# Altium integrated library Linear Technology Power Management Power Control.IntLib: 661 symbols (part 20 of 43)
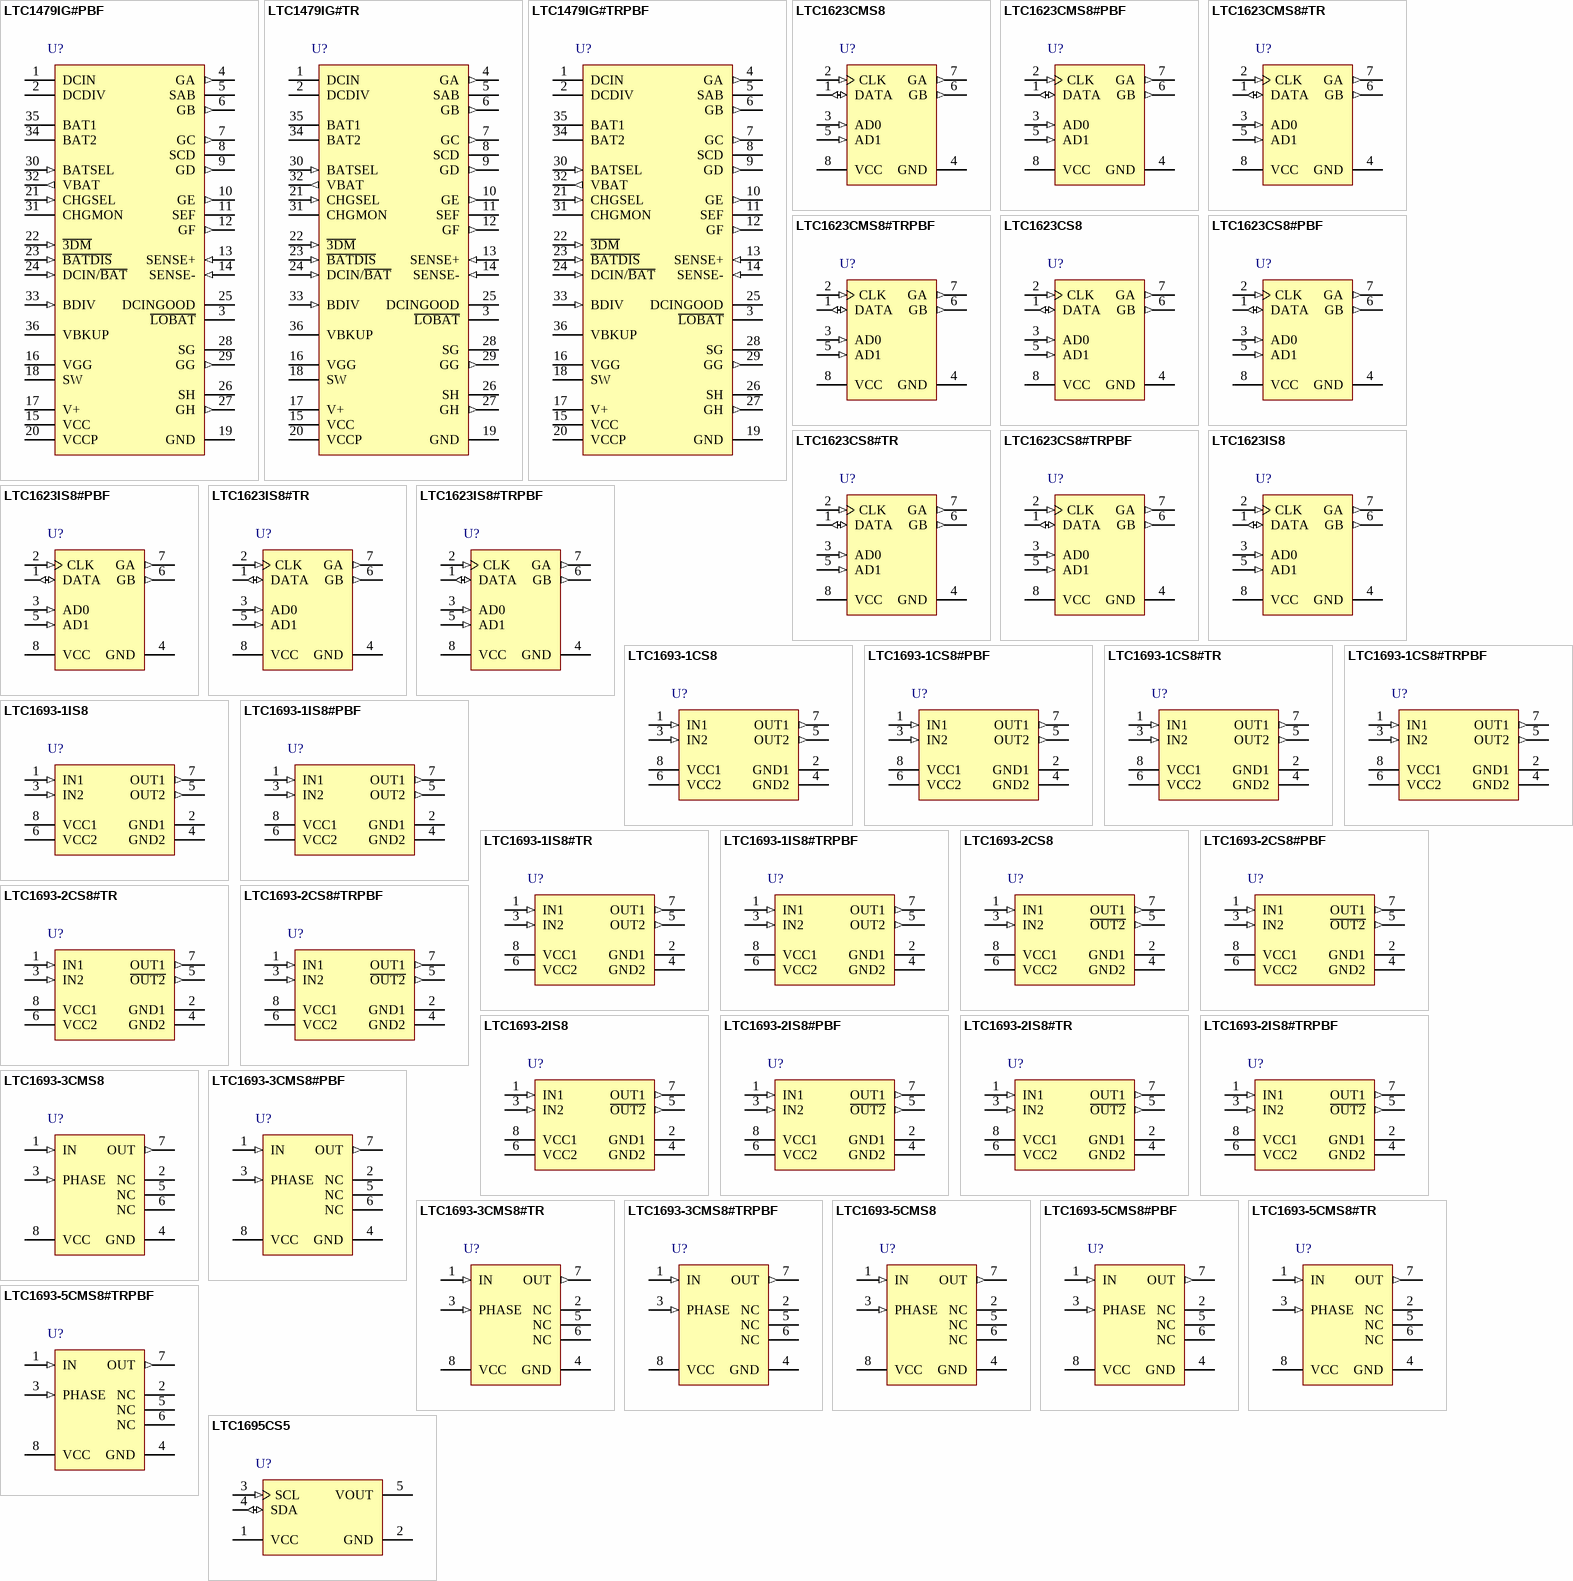
[diagram p38: symbols LTC1479IG#PBF to LTC1695CS5]

## LTC1479IG#TR
designator U?
Triple PowerPath Controller for Dual Battery System and AC/DC, 6 to 28 V Vin, 36-pin SOP (G-36), -40 to 85 degC, Tape and Reel; Manufacturer: Linear Technology; PartNumber: LTC1479IG#TR; Ideal Diode: Triple, External, N-Channel; PackageReference: G-36; PackageDescription: 36-Pin Plastic SSOP, Body 12.8 x 5.3 mm, Pitch 0.65 mm; Supplier 1: Digi-Key; Supplier Part Number 1: LTC1479IG#TR-ND; Packing: Tape and Reel; RoHS: FALSE; Mounting Technology: Surface Mount; ComponentLink1Description: Manufacturer URL; ComponentLink1URL: http://www.linear.com/; ComponentLink2Description: Datasheet; ComponentLink2URL: http://cds.linear.com/docs/en/datasheet/1479f.pdf; ComponentLink3Description: Package Specification; ComponentLink3URL: http://cds.linear.com/docs/en/packaging/SSOP_36_05-08-1640.pdf
footprint LT-G-36_N (SOP, 36-Leads, Body 13.1x5.6mm, Pitch 0.65mm, IPC Medium Density)
footprint LT-G-36_L (SOP, 36-Leads, Body 13.1x5.6mm, Pitch 0.65mm, IPC High Density)
footprint LT-G-36_M (SOP, 36-Leads, Body 13.1x5.6mm, Pitch 0.65mm, IPC Low Density)
pins: 1 DCIN (power) "Supply Input. A 330 ohm resistor should be put in series with this pin and the external DC power source. A 0.1 uF bypass capacitor should be connected to this pin as close as possible.", 2 DCDIV (power) "Supply Divider Input. This is a high impedance comparator input with a 1.215 V threshold (rising edge) and approximately -35 mV hysteresis.", 3 ~{LOBAT} (oc) "Comparator Output. This open-drain output does not have an internal pull-up current source and is active low when the selected battery voltage drops below the programmed voltage.", 4 GA (out) "DCIN Switch Gate Drive. This pin drive the gates of the back-to-back N-channel switches in series with the DCIN input.", 5 SAB "Source Return. The SAB pin is connected to the sources of SW A and SW B. A small pull-down current source returns this node to 0 V when the switches are turned off.", 6 GB (out) "DCIN Switch Gate Drive. This pin drive the gates of the back-to-back N-channel switches in series with the DCIN input.", 7 GC (out) "BAT1 Switch Gate Drive.  This pin drive the gates of the back-to-back N-channel switches in series with the BAT1 input.", 8 SCD "Source Return. The SCD pin is connected to the sources of SW C and SW D. A small pull-down current source returns this node to 0 V when the switches are turned off.", 9 GD (out) "BAT1 Switch Gate Drive.  This pin drive the gates of the back-to-back N-channel switches in series with the BAT1 input.", 10 GE (out) "BAT2 Switch Gate Drive.  This pin drive the gates of the back-to-back N-channel switches in series with the BAT2 input.", 11 SEF "Source Return. The SEF pin is connected to the sources of SW E and SW F. A small pull-down current source returns this node to 0 V potential when the switches are turned off.", 12 GF (out) "BAT2 Switch Gate Drive.  This pin drive the gates of the back-to-back N-channel switches in series with the BAT2 input.", 13 SENSE+ (in) "Inrush Current Input. This pin should be connected directly to the "top" (switch side) of the low valued resistor in series with the three input power selector switch pairs, SW A/B, SW C/D and SW E/F, for detecting and (See Datasheet)", 14 SENSE- (in) "Inrush Current Input. This pin should be connected directly to the "bottom" (output side) of the low valued resistor in series with the three input power selector switch pairs, SW A/B, SW C/D and SW E/F, for detecting and (See Datasheet)", 15 VCC (power) "Power Supply Output. This is a nominal 3.60 V output. Bypass this regulator output with a 2.2 uF tantalum capacitor.  This capacitor is required for stability.", 16 VGG (power) "Gate Supply. This high voltage (36.5 V) switching regulator is intended only for driving the internal micropower gate drive circuitry.  Do not load this pin with any external circuitry. Bypass this pin with a 1 uF/50 V (See Datasheet)", 17 V+ (power) "Supply. The V+ pin is connected via three internal diodes to the DCIN, BAT1 and BAT2 pins and powers the top of the VGG switching regulator inductor. Bypass this pin with a 1 uF/35 V capacitor.", 18 SW (power) "Output. This pin drives the "bottom" of the VGG switching regulator inductor which is connected between this pin and the V+ pin.", 19 GND (power) "Ground. The V GG  and V+ bypass capacitors should be returned to this ground which is connected directly to the source of the N-channel switch in the VGG regulator.", 20 VCCP (power) "Power Supply Output. Bypass this output with at least a 0.1 uF capacitor. The VCCP power supply is used primarily to power internal logic circuitry.", 21 CHGSEL (in) "Battery Charger Selector Input. This high impedance logic input has a built-in 2 uA pull-up current source and allows the uP to determine which battery is being charged by connecting the selected battery to the charger (See Datasheet)", 22 ~{3DM} (in) "Three Diode Mode Input. This high impedance logic input has no built-in pull-up current source. Connect a 100 k resistor from this pin to ground to ensure three diode mode operation from a "old start.“", 23 ~{BATDIS} (in) "Battery Disconnect Input. This high-impedance logic input has a built-in 2 uA pull-up current source and allows the uP to disconnect the battery from the system.", 24 DCIN/~{BAT} (in) "Selector Input. This high impedance logic input allows the uP to make the ultimate decision on the connection of the DC power source, based upon the DCINGOOD pin information. In some minimized systems, the DCIN/B\A\T\ pin (See Datasheet)", 25 DCINGOOD (oc) "Comparator Output. This open-drain output has an internal 2 uA pull-up current source connected through a diode to the VCCP power supply. An external pull-up resistor can be added if more pull-up current is required. This (See Datasheet)", 26 SH "Source Returns. This pin is connected to the sources of SW G and SW H respectively. A small pull-down current source returns these nodes to 0 V when the switches are turned off.", 27 GH (out) "Charger Switch Gate Drive. This pin drive the gates of the back-to-back N-channel switch pairs, SW G and SW H, between the charger output and the two batteries.", 28 SG "Source Returns. This pin is connected to the sources of SW G and SW H respectively. A small pull-down current source returns these nodes to 0 V when the switches are turned off.", 29 GG (out) "Charger Switch Gate Drive. This pin drive the gates of the back-to-back N-channel switch pairs, SW G and SW H, between the charger output and the two batteries.", 30 BATSEL (in) "Battery Selector Input. This high impedance logic input has a built-in 2 uA pull-up current source and allows the uP to select which battery is connected to the system and the battery monitor comparator input. Battery 1 is (See Datasheet)", 31 CHGMON (hiz) "Battery Selector Output. This pin is the output of an internal switch which is connected to BAT1 and BAT2 and connects the positive terminal of the selected battery to the voltage feedback resistors in the charger circuit.", 32 VBAT (out) "Battery Voltage Sense. This pin connects the top of the battery resistor ladder to either BAT1 or BAT2.", 33 BDIV (in) "Battery Divider Input. A high impedance comparator input with a 1.215 V threshold (falling edge) and approximately 35 mV hysteresis.", 34 BAT2 (power) "Supply Input. This pin is the input from the battery. A 1 uF bypass capacitor should be connected to each pin as close as possible if there is no larger battery supply capacitor within 2".", 35 BAT1 (power) "Supply Input. This pin is the input from the battery. A 1 uF bypass capacitor should be connected to each pin as close as possible if there is no larger battery supply capacitor within 2".", 36 VBKUP (power) "Supply Input. This input supplies power to the LTC1479 when in the backup mode of operation. A 1 uF bypass capacitor should be connected to the VBKUP pin as close as possible if there is no larger backup supply capacitor (See Datasheet)"

## LTC1479IG#TRPBF
designator U?
Triple PowerPath Controller for Dual Battery System and AC/DC, 6 to 28 V Vin, 36-pin SOP (G-36), -40 to 85 degC, Pb-Free, Tape and Reel; Manufacturer: Linear Technology; PartNumber: LTC1479IG#TRPBF; Ideal Diode: Triple, External, N-Channel; PackageReference: G-36; PackageDescription: 36-Pin Plastic SSOP, Body 12.8 x 5.3 mm, Pitch 0.65 mm; Supplier 1: Digi-Key; Supplier Part Number 1: LTC1479IG#TRPBF-ND; Packing: Tape and Reel; RoHS: TRUE; Mounting Technology: Surface Mount; ComponentLink1Description: Manufacturer URL; ComponentLink1URL: http://www.linear.com/; ComponentLink2Description: Datasheet; ComponentLink2URL: http://cds.linear.com/docs/en/datasheet/1479f.pdf; ComponentLink3Description: Package Specification; ComponentLink3URL: http://cds.linear.com/docs/en/packaging/SSOP_36_05-08-1640.pdf
footprint LT-G-36_N (SOP, 36-Leads, Body 13.1x5.6mm, Pitch 0.65mm, IPC Medium Density)
footprint LT-G-36_L (SOP, 36-Leads, Body 13.1x5.6mm, Pitch 0.65mm, IPC High Density)
footprint LT-G-36_M (SOP, 36-Leads, Body 13.1x5.6mm, Pitch 0.65mm, IPC Low Density)
pins: 1 DCIN (power) "Supply Input. A 330 ohm resistor should be put in series with this pin and the external DC power source. A 0.1 uF bypass capacitor should be connected to this pin as close as possible.", 2 DCDIV (power) "Supply Divider Input. This is a high impedance comparator input with a 1.215 V threshold (rising edge) and approximately -35 mV hysteresis.", 3 ~{LOBAT} (oc) "Comparator Output. This open-drain output does not have an internal pull-up current source and is active low when the selected battery voltage drops below the programmed voltage.", 4 GA (out) "DCIN Switch Gate Drive. This pin drive the gates of the back-to-back N-channel switches in series with the DCIN input.", 5 SAB "Source Return. The SAB pin is connected to the sources of SW A and SW B. A small pull-down current source returns this node to 0 V when the switches are turned off.", 6 GB (out) "DCIN Switch Gate Drive. This pin drive the gates of the back-to-back N-channel switches in series with the DCIN input.", 7 GC (out) "BAT1 Switch Gate Drive.  This pin drive the gates of the back-to-back N-channel switches in series with the BAT1 input.", 8 SCD "Source Return. The SCD pin is connected to the sources of SW C and SW D. A small pull-down current source returns this node to 0 V when the switches are turned off.", 9 GD (out) "BAT1 Switch Gate Drive.  This pin drive the gates of the back-to-back N-channel switches in series with the BAT1 input.", 10 GE (out) "BAT2 Switch Gate Drive.  This pin drive the gates of the back-to-back N-channel switches in series with the BAT2 input.", 11 SEF "Source Return. The SEF pin is connected to the sources of SW E and SW F. A small pull-down current source returns this node to 0 V potential when the switches are turned off.", 12 GF (out) "BAT2 Switch Gate Drive.  This pin drive the gates of the back-to-back N-channel switches in series with the BAT2 input.", 13 SENSE+ (in) "Inrush Current Input. This pin should be connected directly to the "top" (switch side) of the low valued resistor in series with the three input power selector switch pairs, SW A/B, SW C/D and SW E/F, for detecting and (See Datasheet)", 14 SENSE- (in) "Inrush Current Input. This pin should be connected directly to the "bottom" (output side) of the low valued resistor in series with the three input power selector switch pairs, SW A/B, SW C/D and SW E/F, for detecting and (See Datasheet)", 15 VCC (power) "Power Supply Output. This is a nominal 3.60 V output. Bypass this regulator output with a 2.2 uF tantalum capacitor.  This capacitor is required for stability.", 16 VGG (power) "Gate Supply. This high voltage (36.5 V) switching regulator is intended only for driving the internal micropower gate drive circuitry.  Do not load this pin with any external circuitry. Bypass this pin with a 1 uF/50 V (See Datasheet)", 17 V+ (power) "Supply. The V+ pin is connected via three internal diodes to the DCIN, BAT1 and BAT2 pins and powers the top of the VGG switching regulator inductor. Bypass this pin with a 1 uF/35 V capacitor.", 18 SW (power) "Output. This pin drives the "bottom" of the VGG switching regulator inductor which is connected between this pin and the V+ pin.", 19 GND (power) "Ground. The V GG  and V+ bypass capacitors should be returned to this ground which is connected directly to the source of the N-channel switch in the VGG regulator.", 20 VCCP (power) "Power Supply Output. Bypass this output with at least a 0.1 uF capacitor. The VCCP power supply is used primarily to power internal logic circuitry.", 21 CHGSEL (in) "Battery Charger Selector Input. This high impedance logic input has a built-in 2 uA pull-up current source and allows the uP to determine which battery is being charged by connecting the selected battery to the charger (See Datasheet)", 22 ~{3DM} (in) "Three Diode Mode Input. This high impedance logic input has no built-in pull-up current source. Connect a 100 k resistor from this pin to ground to ensure three diode mode operation from a "old start.“", 23 ~{BATDIS} (in) "Battery Disconnect Input. This high-impedance logic input has a built-in 2 uA pull-up current source and allows the uP to disconnect the battery from the system.", 24 DCIN/~{BAT} (in) "Selector Input. This high impedance logic input allows the uP to make the ultimate decision on the connection of the DC power source, based upon the DCINGOOD pin information. In some minimized systems, the DCIN/B\A\T\ pin (See Datasheet)", 25 DCINGOOD (oc) "Comparator Output. This open-drain output has an internal 2 uA pull-up current source connected through a diode to the VCCP power supply. An external pull-up resistor can be added if more pull-up current is required. This (See Datasheet)", 26 SH "Source Returns. This pin is connected to the sources of SW G and SW H respectively. A small pull-down current source returns these nodes to 0 V when the switches are turned off.", 27 GH (out) "Charger Switch Gate Drive. This pin drive the gates of the back-to-back N-channel switch pairs, SW G and SW H, between the charger output and the two batteries.", 28 SG "Source Returns. This pin is connected to the sources of SW G and SW H respectively. A small pull-down current source returns these nodes to 0 V when the switches are turned off.", 29 GG (out) "Charger Switch Gate Drive. This pin drive the gates of the back-to-back N-channel switch pairs, SW G and SW H, between the charger output and the two batteries.", 30 BATSEL (in) "Battery Selector Input. This high impedance logic input has a built-in 2 uA pull-up current source and allows the uP to select which battery is connected to the system and the battery monitor comparator input. Battery 1 is (See Datasheet)", 31 CHGMON (hiz) "Battery Selector Output. This pin is the output of an internal switch which is connected to BAT1 and BAT2 and connects the positive terminal of the selected battery to the voltage feedback resistors in the charger circuit.", 32 VBAT (out) "Battery Voltage Sense. This pin connects the top of the battery resistor ladder to either BAT1 or BAT2.", 33 BDIV (in) "Battery Divider Input. A high impedance comparator input with a 1.215 V threshold (falling edge) and approximately 35 mV hysteresis.", 34 BAT2 (power) "Supply Input. This pin is the input from the battery. A 1 uF bypass capacitor should be connected to each pin as close as possible if there is no larger battery supply capacitor within 2".", 35 BAT1 (power) "Supply Input. This pin is the input from the battery. A 1 uF bypass capacitor should be connected to each pin as close as possible if there is no larger battery supply capacitor within 2".", 36 VBKUP (power) "Supply Input. This input supplies power to the LTC1479 when in the backup mode of operation. A 1 uF bypass capacitor should be connected to the VBKUP pin as close as possible if there is no larger backup supply capacitor (See Datasheet)"

## LTC1623CMS8
designator U?
Control Up to 16 Peripherals on Same Bus, 2.7 to 5.5 V Vin, 8-pin SOP (MS8-8), 0 to 70 degC; Manufacturer: Linear Technology; PartNumber: LTC1623CMS8; PackageVersion: Rev. G, 03/2012; PackageReference: MS8-8; PackageDescription: 8-Pin Plastic MSOP, Body 3 x 3 mm, Pitch 0.65 mm; Supplier 1: Digi-Key; Supplier Part Number 1: LTC1623CMS8-ND; RoHS: FALSE; Mounting Technology: Surface Mount; ComponentLink1Description: Manufacturer URL; ComponentLink1URL: http://www.linear.com/; ComponentLink2Description: Datasheet; ComponentLink2URL: http://cds.linear.com/docs/en/datasheet/1623f.pdf; ComponentLink3Description: Package Specification; ComponentLink3URL: http://cds.linear.com/docs/en/packaging/05081660_G_MS8.pdf
footprint LT-MS8-8_N (SOP, 8-Leads, Body 3.1x3.1mm, Pitch 0.65mm, IPC Medium Density)
footprint LT-MS8-8_L (SOP, 8-Leads, Body 3.1x3.1mm, Pitch 0.65mm, IPC High Density)
footprint LT-MS8-8_M (SOP, 8-Leads, Body 3.1x3.1mm, Pitch 0.65mm, IPC Low Density)
pins: 1 DATA (io) "Open-Drain Connected Serial Data Interface. Must be pulled high to VCC with external resistor. The pull-up current must be limited to 350uA.", 2 CLK (in) "Serial Clock Interface. Must be pulled high to VCC with external resistor. The pull-up current must be limited to 350uA.", 3 AD0 (in) "Lower Three-State Programmable Address Pin. Must be connected directly to VCC, GND, or VCC/2 (using two resistors <= 1M). Do not float this pin.", 4 GND (power) "Ground.", 5 AD1 (in) "Higher Three-State Programmable Address Pin. Must be connected directly to VCC, GND, or VCC/2 (using two resistors <= 1M). Do not float this pin.", 6 GB (out) "Gate Drive to External High-Side Switch. Fully enhanced by internal charge pump. Controlled by 2nd LSB of command byte.", 7 GA (out) "Gate Drive to External High-Side Switch. Fully enhanced by internal charge pump. Controlled by LSB of command byte.", 8 VCC (power) "Input Supply Voltage. Range from 2.7V to 5.5V."

## LTC1623CMS8#PBF
designator U?
Control Up to 16 Peripherals on Same Bus, 2.7 to 5.5 V Vin, 8-pin SOP (MS8-8), 0 to 70 degC, Pb-Free; Manufacturer: Linear Technology; PartNumber: LTC1623CMS8#PBF; PackageVersion: Rev. G, 03/2012; PackageReference: MS8-8; PackageDescription: 8-Pin Plastic MSOP, Body 3 x 3 mm, Pitch 0.65 mm; Supplier 1: Digi-Key; Supplier Part Number 1: LTC1623CMS8#PBF-ND; RoHS: TRUE; Mounting Technology: Surface Mount; ComponentLink1Description: Manufacturer URL; ComponentLink1URL: http://www.linear.com/; ComponentLink2Description: Datasheet; ComponentLink2URL: http://cds.linear.com/docs/en/datasheet/1623f.pdf; ComponentLink3Description: Package Specification; ComponentLink3URL: http://cds.linear.com/docs/en/packaging/05081660_G_MS8.pdf
footprint LT-MS8-8_N (SOP, 8-Leads, Body 3.1x3.1mm, Pitch 0.65mm, IPC Medium Density)
footprint LT-MS8-8_L (SOP, 8-Leads, Body 3.1x3.1mm, Pitch 0.65mm, IPC High Density)
footprint LT-MS8-8_M (SOP, 8-Leads, Body 3.1x3.1mm, Pitch 0.65mm, IPC Low Density)
pins: 1 DATA (io) "Open-Drain Connected Serial Data Interface. Must be pulled high to VCC with external resistor. The pull-up current must be limited to 350uA.", 2 CLK (in) "Serial Clock Interface. Must be pulled high to VCC with external resistor. The pull-up current must be limited to 350uA.", 3 AD0 (in) "Lower Three-State Programmable Address Pin. Must be connected directly to VCC, GND, or VCC/2 (using two resistors <= 1M). Do not float this pin.", 4 GND (power) "Ground.", 5 AD1 (in) "Higher Three-State Programmable Address Pin. Must be connected directly to VCC, GND, or VCC/2 (using two resistors <= 1M). Do not float this pin.", 6 GB (out) "Gate Drive to External High-Side Switch. Fully enhanced by internal charge pump. Controlled by 2nd LSB of command byte.", 7 GA (out) "Gate Drive to External High-Side Switch. Fully enhanced by internal charge pump. Controlled by LSB of command byte.", 8 VCC (power) "Input Supply Voltage. Range from 2.7V to 5.5V."

## LTC1623CMS8#TR
designator U?
Control Up to 16 Peripherals on Same Bus, 2.7 to 5.5 V Vin, 8-pin SOP (MS8-8), 0 to 70 degC, Tape and Reel; Manufacturer: Linear Technology; PartNumber: LTC1623CMS8#TR; PackageVersion: Rev. G, 03/2012; PackageReference: MS8-8; PackageDescription: 8-Pin Plastic MSOP, Body 3 x 3 mm, Pitch 0.65 mm; Supplier 1: Digi-Key; Supplier Part Number 1: LTC1623CMS8#TR-ND; Packing: Tape and Reel; RoHS: FALSE; Mounting Technology: Surface Mount; ComponentLink1Description: Manufacturer URL; ComponentLink1URL: http://www.linear.com/; ComponentLink2Description: Datasheet; ComponentLink2URL: http://cds.linear.com/docs/en/datasheet/1623f.pdf; ComponentLink3Description: Package Specification; ComponentLink3URL: http://cds.linear.com/docs/en/packaging/05081660_G_MS8.pdf
footprint LT-MS8-8_N (SOP, 8-Leads, Body 3.1x3.1mm, Pitch 0.65mm, IPC Medium Density)
footprint LT-MS8-8_L (SOP, 8-Leads, Body 3.1x3.1mm, Pitch 0.65mm, IPC High Density)
footprint LT-MS8-8_M (SOP, 8-Leads, Body 3.1x3.1mm, Pitch 0.65mm, IPC Low Density)
pins: 1 DATA (io) "Open-Drain Connected Serial Data Interface. Must be pulled high to VCC with external resistor. The pull-up current must be limited to 350uA.", 2 CLK (in) "Serial Clock Interface. Must be pulled high to VCC with external resistor. The pull-up current must be limited to 350uA.", 3 AD0 (in) "Lower Three-State Programmable Address Pin. Must be connected directly to VCC, GND, or VCC/2 (using two resistors <= 1M). Do not float this pin.", 4 GND (power) "Ground.", 5 AD1 (in) "Higher Three-State Programmable Address Pin. Must be connected directly to VCC, GND, or VCC/2 (using two resistors <= 1M). Do not float this pin.", 6 GB (out) "Gate Drive to External High-Side Switch. Fully enhanced by internal charge pump. Controlled by 2nd LSB of command byte.", 7 GA (out) "Gate Drive to External High-Side Switch. Fully enhanced by internal charge pump. Controlled by LSB of command byte.", 8 VCC (power) "Input Supply Voltage. Range from 2.7V to 5.5V."

## LTC1623CMS8#TRPBF
designator U?
Control Up to 16 Peripherals on Same Bus, 2.7 to 5.5 V Vin, 8-pin SOP (MS8-8), 0 to 70 degC, Pb-Free, Tape and Reel; Manufacturer: Linear Technology; PartNumber: LTC1623CMS8#TRPBF; PackageVersion: Rev. G, 03/2012; PackageReference: MS8-8; PackageDescription: 8-Pin Plastic MSOP, Body 3 x 3 mm, Pitch 0.65 mm; Supplier 1: Digi-Key; Supplier Part Number 1: LTC1623CMS8#TRPBF-ND; Packing: Tape and Reel; RoHS: TRUE; Mounting Technology: Surface Mount; ComponentLink1Description: Manufacturer URL; ComponentLink1URL: http://www.linear.com/; ComponentLink2Description: Datasheet; ComponentLink2URL: http://cds.linear.com/docs/en/datasheet/1623f.pdf; ComponentLink3Description: Package Specification; ComponentLink3URL: http://cds.linear.com/docs/en/packaging/05081660_G_MS8.pdf
footprint LT-MS8-8_N (SOP, 8-Leads, Body 3.1x3.1mm, Pitch 0.65mm, IPC Medium Density)
footprint LT-MS8-8_L (SOP, 8-Leads, Body 3.1x3.1mm, Pitch 0.65mm, IPC High Density)
footprint LT-MS8-8_M (SOP, 8-Leads, Body 3.1x3.1mm, Pitch 0.65mm, IPC Low Density)
pins: 1 DATA (io) "Open-Drain Connected Serial Data Interface. Must be pulled high to VCC with external resistor. The pull-up current must be limited to 350uA.", 2 CLK (in) "Serial Clock Interface. Must be pulled high to VCC with external resistor. The pull-up current must be limited to 350uA.", 3 AD0 (in) "Lower Three-State Programmable Address Pin. Must be connected directly to VCC, GND, or VCC/2 (using two resistors <= 1M). Do not float this pin.", 4 GND (power) "Ground.", 5 AD1 (in) "Higher Three-State Programmable Address Pin. Must be connected directly to VCC, GND, or VCC/2 (using two resistors <= 1M). Do not float this pin.", 6 GB (out) "Gate Drive to External High-Side Switch. Fully enhanced by internal charge pump. Controlled by 2nd LSB of command byte.", 7 GA (out) "Gate Drive to External High-Side Switch. Fully enhanced by internal charge pump. Controlled by LSB of command byte.", 8 VCC (power) "Input Supply Voltage. Range from 2.7V to 5.5V."

## LTC1623CS8
designator U?
Control Up to 16 Peripherals on Same Bus, 2.7 to 5.5 V Vin, 8-pin SOIC (S8-8), 0 to 70 degC; Manufacturer: Linear Technology; PartNumber: LTC1623CS8; PackageVersion: Rev. G, 03/2012; PackageReference: S8-8; PackageDescription: 8-Pin Plastic Small Outline (Narrow .150 Inch), Body 4.9 x 3.9 mm, Pitch 1.27 mm; Supplier 1: Digi-Key; Supplier Part Number 1: LTC1623CS8-ND; RoHS: FALSE; Mounting Technology: Surface Mount; ComponentLink1Description: Manufacturer URL; ComponentLink1URL: http://www.linear.com/; ComponentLink2Description: Datasheet; ComponentLink2URL: http://cds.linear.com/docs/en/datasheet/1623f.pdf; ComponentLink3Description: Package Specification; ComponentLink3URL: http://cds.linear.com/docs/en/packaging/05081610_G_SO8.pdf
footprint LT-S8-8_N (SOIC, 8-Leads, Body 5x4mm, Pitch 1.27mm, IPC Medium Density)
footprint LT-S8-8_L (SOIC, 8-Leads, Body 5x4mm, Pitch 1.27mm, IPC High Density)
footprint LT-S8-8_M (SOIC, 8-Leads, Body 5x4mm, Pitch 1.27mm, IPC Low Density)
pins: 1 DATA (io) "Open-Drain Connected Serial Data Interface. Must be pulled high to VCC with external resistor. The pull-up current must be limited to 350uA.", 2 CLK (in) "Serial Clock Interface. Must be pulled high to VCC with external resistor. The pull-up current must be limited to 350uA.", 3 AD0 (in) "Lower Three-State Programmable Address Pin. Must be connected directly to VCC, GND, or VCC/2 (using two resistors <= 1M). Do not float this pin.", 4 GND (power) "Ground.", 5 AD1 (in) "Higher Three-State Programmable Address Pin. Must be connected directly to VCC, GND, or VCC/2 (using two resistors <= 1M). Do not float this pin.", 6 GB (out) "Gate Drive to External High-Side Switch. Fully enhanced by internal charge pump. Controlled by 2nd LSB of command byte.", 7 GA (out) "Gate Drive to External High-Side Switch. Fully enhanced by internal charge pump. Controlled by LSB of command byte.", 8 VCC (power) "Input Supply Voltage. Range from 2.7V to 5.5V."

## LTC1623CS8#PBF
designator U?
Control Up to 16 Peripherals on Same Bus, 2.7 to 5.5 V Vin, 8-pin SOIC (S8-8), 0 to 70 degC, Pb-Free; Manufacturer: Linear Technology; PartNumber: LTC1623CS8#PBF; PackageVersion: Rev. G, 03/2012; PackageReference: S8-8; PackageDescription: 8-Pin Plastic Small Outline (Narrow .150 Inch), Body 4.9 x 3.9 mm, Pitch 1.27 mm; Supplier 1: Digi-Key; Supplier Part Number 1: LTC1623CS8#PBF-ND; RoHS: TRUE; Mounting Technology: Surface Mount; ComponentLink1Description: Manufacturer URL; ComponentLink1URL: http://www.linear.com/; ComponentLink2Description: Datasheet; ComponentLink2URL: http://cds.linear.com/docs/en/datasheet/1623f.pdf; ComponentLink3Description: Package Specification; ComponentLink3URL: http://cds.linear.com/docs/en/packaging/05081610_G_SO8.pdf
footprint LT-S8-8_N (SOIC, 8-Leads, Body 5x4mm, Pitch 1.27mm, IPC Medium Density)
footprint LT-S8-8_L (SOIC, 8-Leads, Body 5x4mm, Pitch 1.27mm, IPC High Density)
footprint LT-S8-8_M (SOIC, 8-Leads, Body 5x4mm, Pitch 1.27mm, IPC Low Density)
pins: 1 DATA (io) "Open-Drain Connected Serial Data Interface. Must be pulled high to VCC with external resistor. The pull-up current must be limited to 350uA.", 2 CLK (in) "Serial Clock Interface. Must be pulled high to VCC with external resistor. The pull-up current must be limited to 350uA.", 3 AD0 (in) "Lower Three-State Programmable Address Pin. Must be connected directly to VCC, GND, or VCC/2 (using two resistors <= 1M). Do not float this pin.", 4 GND (power) "Ground.", 5 AD1 (in) "Higher Three-State Programmable Address Pin. Must be connected directly to VCC, GND, or VCC/2 (using two resistors <= 1M). Do not float this pin.", 6 GB (out) "Gate Drive to External High-Side Switch. Fully enhanced by internal charge pump. Controlled by 2nd LSB of command byte.", 7 GA (out) "Gate Drive to External High-Side Switch. Fully enhanced by internal charge pump. Controlled by LSB of command byte.", 8 VCC (power) "Input Supply Voltage. Range from 2.7V to 5.5V."

## LTC1623CS8#TR
designator U?
Control Up to 16 Peripherals on Same Bus, 2.7 to 5.5 V Vin, 8-pin SOIC (S8-8), 0 to 70 degC, Tape and Reel; Manufacturer: Linear Technology; PartNumber: LTC1623CS8#TR; PackageVersion: Rev. G, 03/2012; PackageReference: S8-8; PackageDescription: 8-Pin Plastic Small Outline (Narrow .150 Inch), Body 4.9 x 3.9 mm, Pitch 1.27 mm; Supplier 1: Digi-Key; Supplier Part Number 1: LTC1623CS8#TR-ND; Packing: Tape and Reel; RoHS: FALSE; Mounting Technology: Surface Mount; ComponentLink1Description: Manufacturer URL; ComponentLink1URL: http://www.linear.com/; ComponentLink2Description: Datasheet; ComponentLink2URL: http://cds.linear.com/docs/en/datasheet/1623f.pdf; ComponentLink3Description: Package Specification; ComponentLink3URL: http://cds.linear.com/docs/en/packaging/05081610_G_SO8.pdf
footprint LT-S8-8_N (SOIC, 8-Leads, Body 5x4mm, Pitch 1.27mm, IPC Medium Density)
footprint LT-S8-8_L (SOIC, 8-Leads, Body 5x4mm, Pitch 1.27mm, IPC High Density)
footprint LT-S8-8_M (SOIC, 8-Leads, Body 5x4mm, Pitch 1.27mm, IPC Low Density)
pins: 1 DATA (io) "Open-Drain Connected Serial Data Interface. Must be pulled high to VCC with external resistor. The pull-up current must be limited to 350uA.", 2 CLK (in) "Serial Clock Interface. Must be pulled high to VCC with external resistor. The pull-up current must be limited to 350uA.", 3 AD0 (in) "Lower Three-State Programmable Address Pin. Must be connected directly to VCC, GND, or VCC/2 (using two resistors <= 1M). Do not float this pin.", 4 GND (power) "Ground.", 5 AD1 (in) "Higher Three-State Programmable Address Pin. Must be connected directly to VCC, GND, or VCC/2 (using two resistors <= 1M). Do not float this pin.", 6 GB (out) "Gate Drive to External High-Side Switch. Fully enhanced by internal charge pump. Controlled by 2nd LSB of command byte.", 7 GA (out) "Gate Drive to External High-Side Switch. Fully enhanced by internal charge pump. Controlled by LSB of command byte.", 8 VCC (power) "Input Supply Voltage. Range from 2.7V to 5.5V."

## LTC1623CS8#TRPBF
designator U?
Control Up to 16 Peripherals on Same Bus, 2.7 to 5.5 V Vin, 8-pin SOIC (S8-8), 0 to 70 degC, Pb-Free, Tape and Reel; Manufacturer: Linear Technology; PartNumber: LTC1623CS8#TRPBF; PackageVersion: Rev. G, 03/2012; PackageReference: S8-8; PackageDescription: 8-Pin Plastic Small Outline (Narrow .150 Inch), Body 4.9 x 3.9 mm, Pitch 1.27 mm; Supplier 1: Digi-Key; Supplier Part Number 1: LTC1623CS8#TRPBF-ND; Packing: Tape and Reel; RoHS: TRUE; Mounting Technology: Surface Mount; ComponentLink1Description: Manufacturer URL; ComponentLink1URL: http://www.linear.com/; ComponentLink2Description: Datasheet; ComponentLink2URL: http://cds.linear.com/docs/en/datasheet/1623f.pdf; ComponentLink3Description: Package Specification; ComponentLink3URL: http://cds.linear.com/docs/en/packaging/05081610_G_SO8.pdf
footprint LT-S8-8_N (SOIC, 8-Leads, Body 5x4mm, Pitch 1.27mm, IPC Medium Density)
footprint LT-S8-8_L (SOIC, 8-Leads, Body 5x4mm, Pitch 1.27mm, IPC High Density)
footprint LT-S8-8_M (SOIC, 8-Leads, Body 5x4mm, Pitch 1.27mm, IPC Low Density)
pins: 1 DATA (io) "Open-Drain Connected Serial Data Interface. Must be pulled high to VCC with external resistor. The pull-up current must be limited to 350uA.", 2 CLK (in) "Serial Clock Interface. Must be pulled high to VCC with external resistor. The pull-up current must be limited to 350uA.", 3 AD0 (in) "Lower Three-State Programmable Address Pin. Must be connected directly to VCC, GND, or VCC/2 (using two resistors <= 1M). Do not float this pin.", 4 GND (power) "Ground.", 5 AD1 (in) "Higher Three-State Programmable Address Pin. Must be connected directly to VCC, GND, or VCC/2 (using two resistors <= 1M). Do not float this pin.", 6 GB (out) "Gate Drive to External High-Side Switch. Fully enhanced by internal charge pump. Controlled by 2nd LSB of command byte.", 7 GA (out) "Gate Drive to External High-Side Switch. Fully enhanced by internal charge pump. Controlled by LSB of command byte.", 8 VCC (power) "Input Supply Voltage. Range from 2.7V to 5.5V."

## LTC1623IS8
designator U?
Control Up to 16 Peripherals on Same Bus, 2.7 to 5.5 V Vin, 8-pin SOIC (S8-8), -40 to 85 degC; Manufacturer: Linear Technology; PartNumber: LTC1623IS8; PackageVersion: Rev. G, 03/2012; PackageReference: S8-8; PackageDescription: 8-Pin Plastic Small Outline (Narrow .150 Inch), Body 4.9 x 3.9 mm, Pitch 1.27 mm; Supplier 1: Digi-Key; Supplier Part Number 1: LTC1623IS8-ND; RoHS: FALSE; Mounting Technology: Surface Mount; ComponentLink1Description: Manufacturer URL; ComponentLink1URL: http://www.linear.com/; ComponentLink2Description: Datasheet; ComponentLink2URL: http://cds.linear.com/docs/en/datasheet/1623f.pdf; ComponentLink3Description: Package Specification; ComponentLink3URL: http://cds.linear.com/docs/en/packaging/05081610_G_SO8.pdf
footprint LT-S8-8_N (SOIC, 8-Leads, Body 5x4mm, Pitch 1.27mm, IPC Medium Density)
footprint LT-S8-8_L (SOIC, 8-Leads, Body 5x4mm, Pitch 1.27mm, IPC High Density)
footprint LT-S8-8_M (SOIC, 8-Leads, Body 5x4mm, Pitch 1.27mm, IPC Low Density)
pins: 1 DATA (io) "Open-Drain Connected Serial Data Interface. Must be pulled high to VCC with external resistor. The pull-up current must be limited to 350uA.", 2 CLK (in) "Serial Clock Interface. Must be pulled high to VCC with external resistor. The pull-up current must be limited to 350uA.", 3 AD0 (in) "Lower Three-State Programmable Address Pin. Must be connected directly to VCC, GND, or VCC/2 (using two resistors <= 1M). Do not float this pin.", 4 GND (power) "Ground.", 5 AD1 (in) "Higher Three-State Programmable Address Pin. Must be connected directly to VCC, GND, or VCC/2 (using two resistors <= 1M). Do not float this pin.", 6 GB (out) "Gate Drive to External High-Side Switch. Fully enhanced by internal charge pump. Controlled by 2nd LSB of command byte.", 7 GA (out) "Gate Drive to External High-Side Switch. Fully enhanced by internal charge pump. Controlled by LSB of command byte.", 8 VCC (power) "Input Supply Voltage. Range from 2.7V to 5.5V."

## LTC1623IS8#PBF
designator U?
Control Up to 16 Peripherals on Same Bus, 2.7 to 5.5 V Vin, 8-pin SOIC (S8-8), -40 to 85 degC, Pb-Free; Manufacturer: Linear Technology; PartNumber: LTC1623IS8#PBF; PackageVersion: Rev. G, 03/2012; PackageReference: S8-8; PackageDescription: 8-Pin Plastic Small Outline (Narrow .150 Inch), Body 4.9 x 3.9 mm, Pitch 1.27 mm; Supplier 1: Digi-Key; Supplier Part Number 1: LTC1623IS8#PBF-ND; RoHS: TRUE; Mounting Technology: Surface Mount; ComponentLink1Description: Manufacturer URL; ComponentLink1URL: http://www.linear.com/; ComponentLink2Description: Datasheet; ComponentLink2URL: http://cds.linear.com/docs/en/datasheet/1623f.pdf; ComponentLink3Description: Package Specification; ComponentLink3URL: http://cds.linear.com/docs/en/packaging/05081610_G_SO8.pdf
footprint LT-S8-8_N (SOIC, 8-Leads, Body 5x4mm, Pitch 1.27mm, IPC Medium Density)
footprint LT-S8-8_L (SOIC, 8-Leads, Body 5x4mm, Pitch 1.27mm, IPC High Density)
footprint LT-S8-8_M (SOIC, 8-Leads, Body 5x4mm, Pitch 1.27mm, IPC Low Density)
pins: 1 DATA (io) "Open-Drain Connected Serial Data Interface. Must be pulled high to VCC with external resistor. The pull-up current must be limited to 350uA.", 2 CLK (in) "Serial Clock Interface. Must be pulled high to VCC with external resistor. The pull-up current must be limited to 350uA.", 3 AD0 (in) "Lower Three-State Programmable Address Pin. Must be connected directly to VCC, GND, or VCC/2 (using two resistors <= 1M). Do not float this pin.", 4 GND (power) "Ground.", 5 AD1 (in) "Higher Three-State Programmable Address Pin. Must be connected directly to VCC, GND, or VCC/2 (using two resistors <= 1M). Do not float this pin.", 6 GB (out) "Gate Drive to External High-Side Switch. Fully enhanced by internal charge pump. Controlled by 2nd LSB of command byte.", 7 GA (out) "Gate Drive to External High-Side Switch. Fully enhanced by internal charge pump. Controlled by LSB of command byte.", 8 VCC (power) "Input Supply Voltage. Range from 2.7V to 5.5V."

## LTC1623IS8#TR
designator U?
Control Up to 16 Peripherals on Same Bus, 2.7 to 5.5 V Vin, 8-pin SOIC (S8-8), -40 to 85 degC, Tape and Reel; Manufacturer: Linear Technology; PartNumber: LTC1623IS8#TR; PackageVersion: Rev. G, 03/2012; PackageReference: S8-8; PackageDescription: 8-Pin Plastic Small Outline (Narrow .150 Inch), Body 4.9 x 3.9 mm, Pitch 1.27 mm; Supplier 1: Digi-Key; Supplier Part Number 1: LTC1623IS8#TR-ND; Packing: Tape and Reel; RoHS: FALSE; Mounting Technology: Surface Mount; ComponentLink1Description: Manufacturer URL; ComponentLink1URL: http://www.linear.com/; ComponentLink2Description: Datasheet; ComponentLink2URL: http://cds.linear.com/docs/en/datasheet/1623f.pdf; ComponentLink3Description: Package Specification; ComponentLink3URL: http://cds.linear.com/docs/en/packaging/05081610_G_SO8.pdf
footprint LT-S8-8_N (SOIC, 8-Leads, Body 5x4mm, Pitch 1.27mm, IPC Medium Density)
footprint LT-S8-8_L (SOIC, 8-Leads, Body 5x4mm, Pitch 1.27mm, IPC High Density)
footprint LT-S8-8_M (SOIC, 8-Leads, Body 5x4mm, Pitch 1.27mm, IPC Low Density)
pins: 1 DATA (io) "Open-Drain Connected Serial Data Interface. Must be pulled high to VCC with external resistor. The pull-up current must be limited to 350uA.", 2 CLK (in) "Serial Clock Interface. Must be pulled high to VCC with external resistor. The pull-up current must be limited to 350uA.", 3 AD0 (in) "Lower Three-State Programmable Address Pin. Must be connected directly to VCC, GND, or VCC/2 (using two resistors <= 1M). Do not float this pin.", 4 GND (power) "Ground.", 5 AD1 (in) "Higher Three-State Programmable Address Pin. Must be connected directly to VCC, GND, or VCC/2 (using two resistors <= 1M). Do not float this pin.", 6 GB (out) "Gate Drive to External High-Side Switch. Fully enhanced by internal charge pump. Controlled by 2nd LSB of command byte.", 7 GA (out) "Gate Drive to External High-Side Switch. Fully enhanced by internal charge pump. Controlled by LSB of command byte.", 8 VCC (power) "Input Supply Voltage. Range from 2.7V to 5.5V."

## LTC1623IS8#TRPBF
designator U?
Control Up to 16 Peripherals on Same Bus, 2.7 to 5.5 V Vin, 8-pin SOIC (S8-8), -40 to 85 degC, Pb-Free, Tape and Reel; Manufacturer: Linear Technology; PartNumber: LTC1623IS8#TRPBF; PackageVersion: Rev. G, 03/2012; PackageReference: S8-8; PackageDescription: 8-Pin Plastic Small Outline (Narrow .150 Inch), Body 4.9 x 3.9 mm, Pitch 1.27 mm; Supplier 1: Digi-Key; Supplier Part Number 1: LTC1623IS8#TRPBF-ND; Packing: Tape and Reel; RoHS: TRUE; Mounting Technology: Surface Mount; ComponentLink1Description: Manufacturer URL; ComponentLink1URL: http://www.linear.com/; ComponentLink2Description: Datasheet; ComponentLink2URL: http://cds.linear.com/docs/en/datasheet/1623f.pdf; ComponentLink3Description: Package Specification; ComponentLink3URL: http://cds.linear.com/docs/en/packaging/05081610_G_SO8.pdf
footprint LT-S8-8_N (SOIC, 8-Leads, Body 5x4mm, Pitch 1.27mm, IPC Medium Density)
footprint LT-S8-8_L (SOIC, 8-Leads, Body 5x4mm, Pitch 1.27mm, IPC High Density)
footprint LT-S8-8_M (SOIC, 8-Leads, Body 5x4mm, Pitch 1.27mm, IPC Low Density)
pins: 1 DATA (io) "Open-Drain Connected Serial Data Interface. Must be pulled high to VCC with external resistor. The pull-up current must be limited to 350uA.", 2 CLK (in) "Serial Clock Interface. Must be pulled high to VCC with external resistor. The pull-up current must be limited to 350uA.", 3 AD0 (in) "Lower Three-State Programmable Address Pin. Must be connected directly to VCC, GND, or VCC/2 (using two resistors <= 1M). Do not float this pin.", 4 GND (power) "Ground.", 5 AD1 (in) "Higher Three-State Programmable Address Pin. Must be connected directly to VCC, GND, or VCC/2 (using two resistors <= 1M). Do not float this pin.", 6 GB (out) "Gate Drive to External High-Side Switch. Fully enhanced by internal charge pump. Controlled by 2nd LSB of command byte.", 7 GA (out) "Gate Drive to External High-Side Switch. Fully enhanced by internal charge pump. Controlled by LSB of command byte.", 8 VCC (power) "Input Supply Voltage. Range from 2.7V to 5.5V."

## LTC1693-1CS8
designator U?
Two Noninverting Drivers 1.5 A Peak Output Current, 4.5 to 13.2 V Vin, 8-pin SOIC (S8-8), 0 to 70 degC; Manufacturer: Linear Technology; PartNumber: LTC1693-1CS8; DatasheetVersion: Rev. A; PackageVersion: Rev. G, 03/2012; PackageReference: S8-8; PackageDescription: 8-Pin Plastic Small Outline (Narrow .150 Inch), Body 4.9 x 3.9 mm, Pitch 1.27 mm; Supplier 1: Digi-Key; Supplier Part Number 1: LTC1693-1CS8-ND; RoHS: FALSE; Mounting Technology: Surface Mount; ComponentLink1Description: Manufacturer URL; ComponentLink1URL: http://www.linear.com/; ComponentLink2Description: Datasheet; ComponentLink2URL: http://cds.linear.com/docs/en/datasheet/1693fa.pdf; ComponentLink3Description: Package Specification; ComponentLink3URL: http://cds.linear.com/docs/en/packaging/05081610_G_SO8.pdf
footprint LT-S8-8_N (SOIC, 8-Leads, Body 5x4mm, Pitch 1.27mm, IPC Medium Density)
footprint LT-S8-8_L (SOIC, 8-Leads, Body 5x4mm, Pitch 1.27mm, IPC High Density)
footprint LT-S8-8_M (SOIC, 8-Leads, Body 5x4mm, Pitch 1.27mm, IPC Low Density)
pins: 1 IN1 (in) "Driver Inputs. The inputs have VCC independent thresholds with 1.2V typical hysteresis to improve noise immunity.", 2 GND1 (power) "Driver Grounds. Connect to a low impedance ground. The VCC bypass capacitor should connect directly to this pin. The source of the external MOSFET should also connect directly to the ground pin. This minimizes the AC current (See Datasheet)", 3 IN2 (in) "Driver Inputs. The inputs have VCC independent thresholds with 1.2V typical hysteresis to improve noise immunity.", 4 GND2 (power) "Driver Grounds. Connect to a low impedance ground. The VCC bypass capacitor should connect directly to this pin. The source of the external MOSFET should also connect directly to the ground pin. This minimizes the AC current (See Datasheet)", 5 OUT2 (out) "Driver Outputs. The LTC1693-1’s outputs are in phase with their respective inputs (IN1, IN2).", 6 VCC2 (power) "Power Supply Inputs", 7 OUT1 (out) "Driver Outputs. The LTC1693-1’s outputs are in phase with their respective inputs (IN1, IN2).", 8 VCC1 (power) "Power Supply Inputs"

## LTC1693-1CS8#PBF
designator U?
Two Noninverting Drivers 1.5 A Peak Output Current, 4.5 to 13.2 V Vin, 8-pin SOIC (S8-8), 0 to 70 degC, Pb-Free; Manufacturer: Linear Technology; PartNumber: LTC1693-1CS8#PBF; DatasheetVersion: Rev. A; PackageVersion: Rev. G, 03/2012; PackageReference: S8-8; PackageDescription: 8-Pin Plastic Small Outline (Narrow .150 Inch), Body 4.9 x 3.9 mm, Pitch 1.27 mm; Supplier 1: Digi-Key; Supplier Part Number 1: LTC1693-1CS8#PBF-ND; Supplier 2: Newark; Supplier Part Number 2: 56M3231; RoHS: TRUE; Mounting Technology: Surface Mount; ComponentLink1Description: Manufacturer URL; ComponentLink1URL: http://www.linear.com/; ComponentLink2Description: Datasheet; ComponentLink2URL: http://cds.linear.com/docs/en/datasheet/1693fa.pdf; ComponentLink3Description: Package Specification; ComponentLink3URL: http://cds.linear.com/docs/en/packaging/05081610_G_SO8.pdf
footprint LT-S8-8_N (SOIC, 8-Leads, Body 5x4mm, Pitch 1.27mm, IPC Medium Density)
footprint LT-S8-8_L (SOIC, 8-Leads, Body 5x4mm, Pitch 1.27mm, IPC High Density)
footprint LT-S8-8_M (SOIC, 8-Leads, Body 5x4mm, Pitch 1.27mm, IPC Low Density)
pins: 1 IN1 (in) "Driver Inputs. The inputs have VCC independent thresholds with 1.2V typical hysteresis to improve noise immunity.", 2 GND1 (power) "Driver Grounds. Connect to a low impedance ground. The VCC bypass capacitor should connect directly to this pin. The source of the external MOSFET should also connect directly to the ground pin. This minimizes the AC current (See Datasheet)", 3 IN2 (in) "Driver Inputs. The inputs have VCC independent thresholds with 1.2V typical hysteresis to improve noise immunity.", 4 GND2 (power) "Driver Grounds. Connect to a low impedance ground. The VCC bypass capacitor should connect directly to this pin. The source of the external MOSFET should also connect directly to the ground pin. This minimizes the AC current (See Datasheet)", 5 OUT2 (out) "Driver Outputs. The LTC1693-1’s outputs are in phase with their respective inputs (IN1, IN2).", 6 VCC2 (power) "Power Supply Inputs", 7 OUT1 (out) "Driver Outputs. The LTC1693-1’s outputs are in phase with their respective inputs (IN1, IN2).", 8 VCC1 (power) "Power Supply Inputs"

## LTC1693-1CS8#TR
designator U?
Two Noninverting Drivers 1.5 A Peak Output Current, 4.5 to 13.2 V Vin, 8-pin SOIC (S8-8), 0 to 70 degC, Tape and Reel; Manufacturer: Linear Technology; PartNumber: LTC1693-1CS8#TR; DatasheetVersion: Rev. A; PackageVersion: Rev. G, 03/2012; PackageReference: S8-8; PackageDescription: 8-Pin Plastic Small Outline (Narrow .150 Inch), Body 4.9 x 3.9 mm, Pitch 1.27 mm; Supplier 1: Digi-Key; Supplier Part Number 1: LTC1693-1CS8#TR-ND; Packing: Tape and Reel; RoHS: FALSE; Mounting Technology: Surface Mount; ComponentLink1Description: Manufacturer URL; ComponentLink1URL: http://www.linear.com/; ComponentLink2Description: Datasheet; ComponentLink2URL: http://cds.linear.com/docs/en/datasheet/1693fa.pdf; ComponentLink3Description: Package Specification; ComponentLink3URL: http://cds.linear.com/docs/en/packaging/05081610_G_SO8.pdf
footprint LT-S8-8_N (SOIC, 8-Leads, Body 5x4mm, Pitch 1.27mm, IPC Medium Density)
footprint LT-S8-8_L (SOIC, 8-Leads, Body 5x4mm, Pitch 1.27mm, IPC High Density)
footprint LT-S8-8_M (SOIC, 8-Leads, Body 5x4mm, Pitch 1.27mm, IPC Low Density)
pins: 1 IN1 (in) "Driver Inputs. The inputs have VCC independent thresholds with 1.2V typical hysteresis to improve noise immunity.", 2 GND1 (power) "Driver Grounds. Connect to a low impedance ground. The VCC bypass capacitor should connect directly to this pin. The source of the external MOSFET should also connect directly to the ground pin. This minimizes the AC current (See Datasheet)", 3 IN2 (in) "Driver Inputs. The inputs have VCC independent thresholds with 1.2V typical hysteresis to improve noise immunity.", 4 GND2 (power) "Driver Grounds. Connect to a low impedance ground. The VCC bypass capacitor should connect directly to this pin. The source of the external MOSFET should also connect directly to the ground pin. This minimizes the AC current (See Datasheet)", 5 OUT2 (out) "Driver Outputs. The LTC1693-1’s outputs are in phase with their respective inputs (IN1, IN2).", 6 VCC2 (power) "Power Supply Inputs", 7 OUT1 (out) "Driver Outputs. The LTC1693-1’s outputs are in phase with their respective inputs (IN1, IN2).", 8 VCC1 (power) "Power Supply Inputs"

## LTC1693-1CS8#TRPBF
designator U?
Two Noninverting Drivers 1.5 A Peak Output Current, 4.5 to 13.2 V Vin, 8-pin SOIC (S8-8), 0 to 70 degC, Pb-Free, Tape and Reel; Manufacturer: Linear Technology; PartNumber: LTC1693-1CS8#TRPBF; DatasheetVersion: Rev. A; PackageVersion: Rev. G, 03/2012; PackageReference: S8-8; PackageDescription: 8-Pin Plastic Small Outline (Narrow .150 Inch), Body 4.9 x 3.9 mm, Pitch 1.27 mm; Supplier 1: Digi-Key; Supplier Part Number 1: LTC1693-1CS8#TRPBF-ND; Packing: Tape and Reel; RoHS: TRUE; Mounting Technology: Surface Mount; ComponentLink1Description: Manufacturer URL; ComponentLink1URL: http://www.linear.com/; ComponentLink2Description: Datasheet; ComponentLink2URL: http://cds.linear.com/docs/en/datasheet/1693fa.pdf; ComponentLink3Description: Package Specification; ComponentLink3URL: http://cds.linear.com/docs/en/packaging/05081610_G_SO8.pdf
footprint LT-S8-8_N (SOIC, 8-Leads, Body 5x4mm, Pitch 1.27mm, IPC Medium Density)
footprint LT-S8-8_L (SOIC, 8-Leads, Body 5x4mm, Pitch 1.27mm, IPC High Density)
footprint LT-S8-8_M (SOIC, 8-Leads, Body 5x4mm, Pitch 1.27mm, IPC Low Density)
pins: 1 IN1 (in) "Driver Inputs. The inputs have VCC independent thresholds with 1.2V typical hysteresis to improve noise immunity.", 2 GND1 (power) "Driver Grounds. Connect to a low impedance ground. The VCC bypass capacitor should connect directly to this pin. The source of the external MOSFET should also connect directly to the ground pin. This minimizes the AC current (See Datasheet)", 3 IN2 (in) "Driver Inputs. The inputs have VCC independent thresholds with 1.2V typical hysteresis to improve noise immunity.", 4 GND2 (power) "Driver Grounds. Connect to a low impedance ground. The VCC bypass capacitor should connect directly to this pin. The source of the external MOSFET should also connect directly to the ground pin. This minimizes the AC current (See Datasheet)", 5 OUT2 (out) "Driver Outputs. The LTC1693-1’s outputs are in phase with their respective inputs (IN1, IN2).", 6 VCC2 (power) "Power Supply Inputs", 7 OUT1 (out) "Driver Outputs. The LTC1693-1’s outputs are in phase with their respective inputs (IN1, IN2).", 8 VCC1 (power) "Power Supply Inputs"